# Altium footprint library VREF 1.5V V ±0.5 7 mA.PcbLib: 3 footprints
Each footprint in its own frame and in the unit in brackets; x right, y up, seen from the top. Pads: shape width x height; smd on the part's side, far side on the other; paste and mask are expansions set on the pad; w line width, h text height; cw(c..) or ccw(c..) is an arc to the next point about the centre after c.
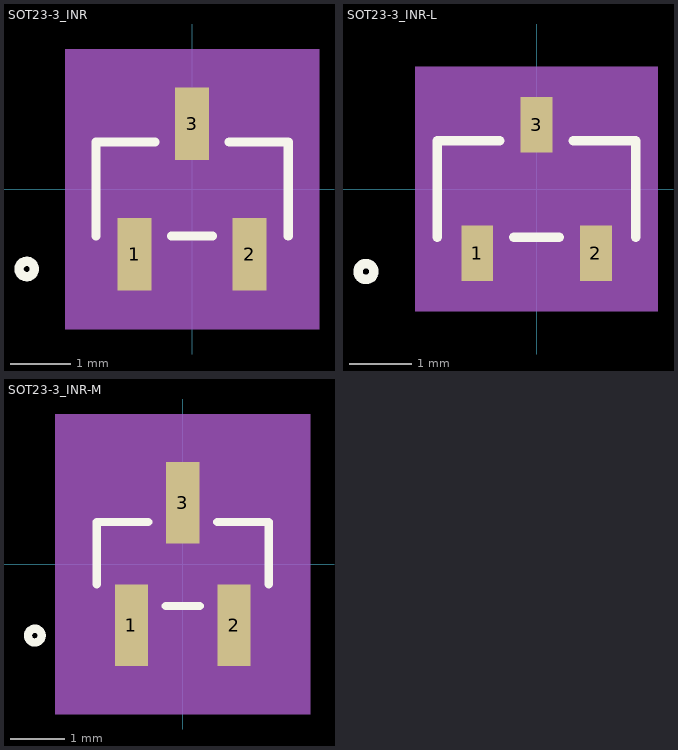
[diagram p0: the footprints below, top view; thin cyan lines are the x and y axes]

## SOT23-3_INR [mil]
pads (3):
  rect 22x47 smd paste+0 mask+0: 1(-37.4,-42.5) 2(37.4,-42.5) 3(0,42.5)
Top Overlay:
  circle w6: c-107.5,-52 r5
  lines w6: -62.5,-30.5 -62.5,30.5 -24.1,30.5 ; -13.3,-30.5 13.3,-30.5 ; 24.1,30.5 62.5,30.5 62.5,-30.5
Mechanical 5:
  region: -82.5,91 82.5,91 82.5,-91 -82.5,-91
Mechanical 13:
  circle w0: c-47.5,-15.5 r5
  lines w1: -57.5,-25.5 57.5,-25.5 57.5,25.5 -57.5,25.5 -57.5,-25.5 ; -47.4,-52 -47.4,-25.5 -27.4,-25.5 -27.4,-52 -47.4,-52 ; -10,25.5 10,25.5 10,52 -10,52 -10,25.5 ; 27.4,-52 27.4,-25.5 47.4,-25.5 47.4,-52 27.4,-52
Mechanical 15:
  region: -67.5,-35.5 -67.5,35.5 -21,35.5 -21,76 21,76 21,35.5 67.5,35.5 67.5,-35.5 58.4,-35.5 58.4,-76 -58.4,-76 -58.4,-35.5
  region: 57.5,-25.5 -57.5,-25.5 -57.5,25.5 57.5,25.5
  lines w6: -67.5,-35.5 -67.5,35.5 -21,35.5 -21,76 21,76 21,35.5 67.5,35.5 67.5,-35.5 58.4,-35.5 58.4,-76 -58.4,-76 -58.4,-35.5 -67.5,-35.5
3D body "SOT23-3_INR.step": height 44.09, standoff 0, extent -57.48,-52.01 57.48,52.01

## SOT23-3_INR-L [mil]
pads (3):
  rect 20x35 smd paste+0 mask+0: 1(-37.4,-40.5) 2(37.4,-40.5) 3(0,40.5)
Top Overlay:
  circle w6: c-107.5,-52 r5
  lines w6: -62.5,-30.5 -62.5,30.5 -23.1,30.5 ; -14.3,-30.5 14.3,-30.5 ; 23.1,30.5 62.5,30.5 62.5,-30.5
Mechanical 5:
  region: -76.5,77 76.5,77 76.5,-77 -76.5,-77
Mechanical 13:
  circle w0: c-47.5,-15.5 r5
  lines w1: -57.5,-25.5 57.5,-25.5 57.5,25.5 -57.5,25.5 -57.5,-25.5 ; -47.4,-52 -47.4,-25.5 -27.4,-25.5 -27.4,-52 -47.4,-52 ; -10,25.5 10,25.5 10,52 -10,52 -10,25.5 ; 27.4,-52 27.4,-25.5 47.4,-25.5 47.4,-52 27.4,-52
Mechanical 15:
  region: -61.5,-29.5 -61.5,29.5 -14,29.5 -14,62 14,62 14,29.5 61.5,29.5 61.5,-29.5 51.4,-29.5 51.4,-62 -51.4,-62 -51.4,-29.5
  region: 57.5,-25.5 -57.5,-25.5 -57.5,25.5 57.5,25.5
  lines w6: -61.5,-29.5 -61.5,29.5 -14,29.5 -14,62 14,62 14,29.5 61.5,29.5 61.5,-29.5 51.4,-29.5 51.4,-62 -51.4,-62 -51.4,-29.5 -61.5,-29.5
3D body "SOT23-3_INR.step": height 44.09, standoff 0, extent -57.48,-52.01 57.48,52.01

## SOT23-3_INR-M [mil]
pads (3):
  rect 24x59 smd paste+0 mask+0: 1(-37.4,-44.5) 2(37.4,-44.5) 3(0,44.5)
Top Overlay:
  circle w6: c-107.5,-52 r5
  lines w6: -62.5,-14.8 -62.5,30.5 -25.1,30.5 ; -12.3,-30.5 12.3,-30.5 ; 25.1,30.5 62.5,30.5 62.5,-14.8
Mechanical 5:
  region: -92.5,109 92.5,109 92.5,-109 -92.5,-109
Mechanical 13:
  circle w0: c-47.5,-15.5 r5
  lines w1: -57.5,-25.5 57.5,-25.5 57.5,25.5 -57.5,25.5 -57.5,-25.5 ; -47.4,-52 -47.4,-25.5 -27.4,-25.5 -27.4,-52 -47.4,-52 ; -10,25.5 10,25.5 10,52 -10,52 -10,25.5 ; 27.4,-52 27.4,-25.5 47.4,-25.5 47.4,-52 27.4,-52
Mechanical 15:
  region: -77.5,-45.5 -77.5,45.5 -32,45.5 -32,94 32,94 32,45.5 77.5,45.5 77.5,-45.5 69.4,-45.5 69.4,-94 -69.4,-94 -69.4,-45.5
  region: 57.5,-25.5 -57.5,-25.5 -57.5,25.5 57.5,25.5
  lines w6: -77.5,-45.5 -77.5,45.5 -32,45.5 -32,94 32,94 32,45.5 77.5,45.5 77.5,-45.5 69.4,-45.5 69.4,-94 -69.4,-94 -69.4,-45.5 -77.5,-45.5
3D body "SOT23-3_INR.step": height 44.09, standoff 0, extent -57.48,-52.01 57.48,52.01